# EAGLE library part INA827 (library INA827)
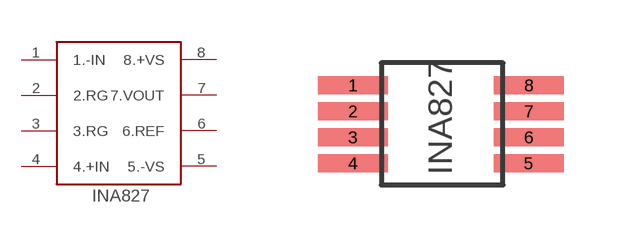
[diagram p0: symbol with the pads of INA827; footprint INA827]

Designator prefix -

## INA827  [INA827]
1  1.-IN
2  2.RG
3  3.RG
4  4.+IN
5  5.-VS
6  6.REF
7  7.VOUT
8  8.+VS

## Footprint INA827 (pad centres in mm)
smd 1.75 x 0.45: 1 -3,3; 2 -3,2.35; 3 -3,1.7; 4 -3,1.05; 5 1.4,1.05; 6 1.4,1.7; 7 1.4,2.35; 8 1.4,3